# Altium footprint library Connector-USB.PcbLib: 11 footprints
Each footprint in its own frame and in the unit in brackets; x right, y up, seen from the top. Pads: shape width x height; smd on the part's side, far side on the other; paste and mask are expansions set on the pad; w line width, h text height; cw(c..) or ccw(c..) is an arc to the next point about the centre after c.
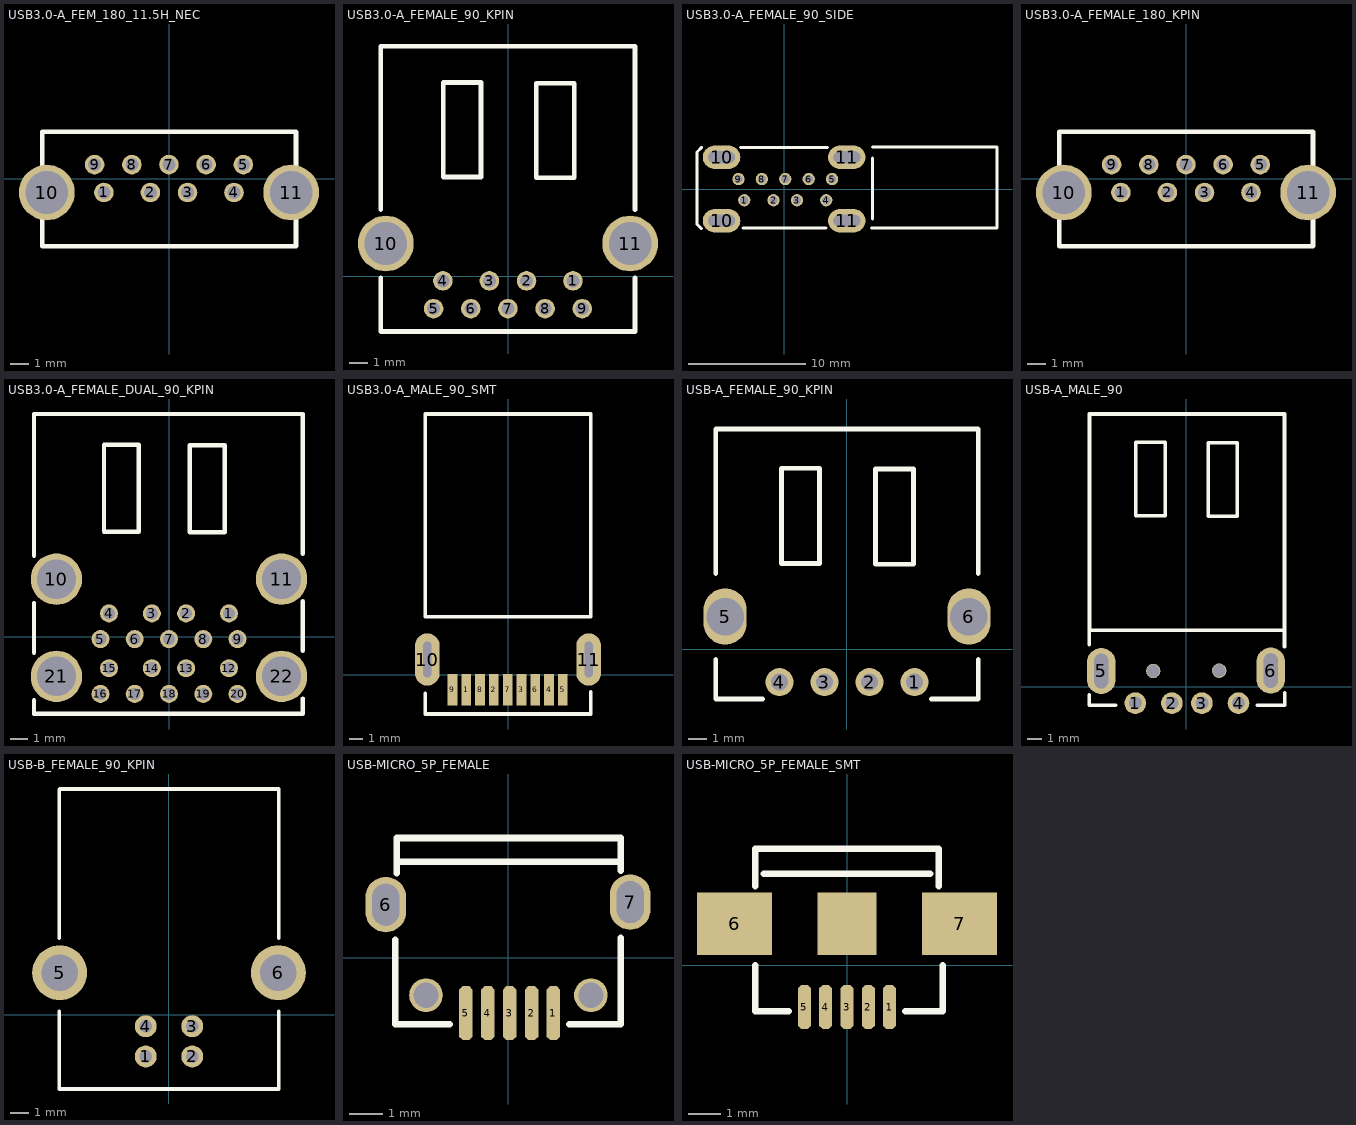
[diagram p0: the footprints below, top view; thin cyan lines are the x and y axes]

## USB3.0-A_FEM_180_11.5H_NEC [mm]
pads (11):
  round 1.05 hole 0.7: 1(-3.502,-0.749) 2(-1.002,-0.749) 3(0.998,-0.749) 4(3.498,-0.749) 5(3.998,0.751) 6(1.998,0.751) 7(-0.002,0.751) 8(-2.002,0.751) 9(-4.002,0.751)
  round 3 hole 2.3: 10(-6.572,-0.751) 11(6.572,-0.751)
Top Overlay:
  lines w0.254: -6.826,-3.634 -6.826,2.513 6.839,2.513 6.839,-3.634 -6.826,-3.634
3D body "kusb0001.stp": height 11, standoff -3.8, extent -7.8,-3.451 7.8,2.269

## USB3.0-A_FEMALE_90_KPIN [mm]
pads (11):
  round 1.05 hole 0.7: 1(3.496,-0.254) 2(0.996,-0.254) 3(-1.004,-0.254) 4(-3.504,-0.254) 5(-4.004,-1.754) 6(-2.004,-1.754) 7(-0.004,-1.754) 8(1.996,-1.754) 9(3.996,-1.754)
  round 3 hole 2.3: 10(-6.572,1.754) 11(6.572,1.754)
Top Overlay:
  lines w0.254: -6.845,-0.094 -6.845,-2.983 6.82,-2.983 ; -6.845,3.589 -6.845,12.371 6.82,12.371 ; 6.833,-2.996 6.833,-0.107 ; 6.833,3.576 6.833,12.358 ; -3.489,5.334 -2.981,5.334 -1.457,5.334 -1.457,10.414 -3.489,10.414 -3.489,5.334 ; 1.526,5.299 2.034,5.299 3.558,5.299 3.558,10.379 1.526,10.379 1.526,5.299
3D body "85r4853_1932258-1.stp": height 7.74, standoff -3.71, extent -8.082,-2.933 8.018,13.547

## USB3.0-A_FEMALE_90_SIDE [mm]
pads (13):
  round 1.05 hole 0.7: 1(-3.41,-0.959) 2(-0.91,-0.959) 3(1.09,-0.959) 4(3.59,-0.959) 5(4.093,0.847) 6(2.093,0.847) 7(0.093,0.847) 8(-1.907,0.847) 9(-3.907,0.847)
  oval 3.2x2 hole 1 slot 2.3 at 0 deg: 10(-5.353,-2.711) 10(-5.353,2.711) 11(5.353,-2.711) 11(5.353,2.711)
Top Overlay:
  lines w0.254: -7.074,-3.391 -7.449,-3.016 -7.449,-2.851 -7.449,2.711 -7.449,3.156 -7.042,3.562 ; -3.715,3.55 3.702,3.55 ; -3.512,-3.334 3.588,-3.334 ; 7.474,-3.321 18.18,-3.321 18.18,3.588 7.525,3.588 ; 7.537,-2.572 7.537,2.661
3D body "usb3_a-usb3_a-e.stp": height 2.99, standoff -15.22, extent -7.116,-3.694 18.584,3.626

## USB3.0-A_FEMALE_180_KPIN [mm]
pads (11):
  round 1.05 hole 0.7: 1(-3.502,-0.749) 2(-1.002,-0.749) 3(0.998,-0.749) 4(3.498,-0.749) 5(3.998,0.751) 6(1.998,0.751) 7(-0.002,0.751) 8(-2.002,0.751) 9(-4.002,0.751)
  round 3 hole 2.3: 10(-6.572,-0.751) 11(6.572,-0.751)
Top Overlay:
  lines w0.254: -6.826,-3.634 -6.826,2.513 6.839,2.513 6.839,-3.634 -6.826,-3.634
3D body "692121430000.stp": height 15, standoff -3.77, extent -7.806,-4.038 7.794,2.912

## USB3.0-A_FEMALE_DUAL_90_KPIN [mm]
pads (22):
  round 1.05 hole 0.7: 1(3.5,1.35) 2(1,1.35) 3(-1,1.35) 4(-3.5,1.35) 5(-4,-0.15) 6(-2,-0.15) 7(0,-0.15) 8(2,-0.15) 9(4,-0.15) 12(3.5,-1.85) 13(1,-1.85) 14(-1,-1.85) 15(-3.5,-1.85) 16(-4,-3.35) 17(-2,-3.35) 18(0,-3.35) 19(2,-3.35) 20(4,-3.35)
  round 3 hole 2.3: 10(-6.57,3.35) 11(6.57,3.35) 21(-6.57,-2.33) 22(6.57,-2.33)
Top Overlay:
  lines w0.254: -7.883,-4.524 -7.883,-3.724 ; -7.883,-4.51 7.815,-4.51 ; -7.883,-0.943 -7.883,1.953 ; -7.883,4.722 -7.883,12.926 ; -7.883,12.99 7.815,12.99 7.815,4.823 ; 7.815,-4.422 7.815,-3.622 ; 7.815,-0.841 7.815,2.055 ; -3.796,6.117 -3.796,11.197 -1.764,11.197 -1.764,6.117 -3.288,6.117 -3.796,6.117 ; 1.219,6.082 1.219,11.162 3.251,11.162 3.251,6.082 1.727,6.082 1.219,6.082
3D body "usb_3_a-usb3_a-2p.stp": height 16.12, standoff -3.5, extent -7.806,-4.468 7.784,15.232

## USB3.0-A_MALE_90_SMT [mm]
pads (11):
  rect 0.7x2.3 smd: 1(-3.025,-1.1) 2(-1.025,-1.1) 3(0.975,-1.1) 4(2.975,-1.1) 5(3.975,-1.1) 6(1.975,-1.1) 7(-0.025,-1.1) 8(-2.025,-1.1) 9(-4.025,-1.1)
  oval 1.8x3.8 hole 0.6 slot 2.6 at 90 deg: 10(-5.85,1.1) 11(5.85,1.1)
Top Overlay:
  lines w0.254: -6,-1.36 -6,-2.85 6,-2.85 6,-1.247 ; -6,4.206 -5.994,4.2 6,4.2 6,18.9 -6,18.9 -6,4.206
3D body "692112030100.stp": height 1.78, standoff -2.72, extent -5.952,-1.964 6.048,18.786

## USB-A_FEMALE_90_KPIN [mm]
pads (6):
  round 1.5 hole 0.9: 1(3.6,-1.75) 2(1.2,-1.75) 3(-1.2,-1.75) 4(-3.6,-1.75)
  oval 2.3x3 hole 2: 5(-6.5,1.75) 6(6.5,1.75)
Top Overlay:
  lines w0.254: -7,-0.55 -7,-2.65 -4.5,-2.65 ; -7,4.05 -7,11.75 7,11.75 7,4.05 ; 4.5,-2.65 7,-2.65 7,-0.55 ; -3.495,4.573 -2.987,4.573 -1.463,4.573 -1.463,9.653 -3.495,9.653 -3.495,4.573 ; 1.52,4.538 2.028,4.538 3.552,4.538 3.552,9.618 1.52,9.618 1.52,4.538
3D body "usb.STEP": height 7.95, standoff -3.19, extent -8.337,-3.63 8.438,11.636

## USB-A_MALE_90 [mm]
pads (8):
  round 1.5 hole 0.9: 1(-3.518,-1.13) 2(-0.978,-1.13) 3(1.105,-1.13) 4(3.645,-1.13)
  oval 2x3.2 hole 1 slot 2.4 at 90 deg: 5(-5.88,1.105) 6(5.88,1.13)
  round 1 hole 0.9: ""(-2.273,1.105) ""(2.299,1.13)
Top Overlay:
  lines w0.254: -6.718,-0.546 -6.718,-1.281 -4.889,-1.281 ; -6.718,2.934 -6.718,3.924 6.835,3.924 ; -6.693,3.924 -6.693,18.936 6.835,18.936 6.835,3.924 ; 4.966,-1.281 6.845,-1.281 6.845,-0.419 ; 6.835,2.807 6.835,3.924 ; -3.483,11.886 -3.483,16.966 -1.451,16.966 -1.451,11.886 -2.975,11.886 -3.483,11.886 ; 1.533,11.851 1.533,16.931 3.565,16.931 3.565,11.851 2.041,11.851 1.533,11.851
3D body "usb_a-usb_a-lp-c.stp": height 4.5, standoff -1.3, extent -6.265,-1.156 6.341,18.769

## USB-B_FEMALE_90_KPIN [mm]
pads (6):
  round 1.2 hole 0.7: 1(-1.27,-2.286) 3(1.27,-0.635) 4(-1.27,-0.635)
  round 1.2 hole 0.7 paste+0: 2(1.27,-2.286)
  round 3 hole 2: 5(-5.969,2.286) 6(5.969,2.286)
Top Overlay:
  lines w0.203: -6,0.186 -6,-4.064 6,-4.064 6,0.186 ; -6,4.186 -6,12.288 ; -5.969,12.319 6,12.319 6,4.186
3D body "USB座-B型": height 11, standoff -4.42, extent -7.432,-4.335 7.453,12.665

## USB-MICRO_5P_FEMALE [mm] "MICRO USB接口，2个直插焊盘固定，后侧牛角形2个固定柱"
height 8
pads (9):
  oct 0.4x1.6 smd: 1(1.351,-1.651) 2(0.701,-1.651) 3(0.051,-1.651) 4(-0.599,-1.651) 5(-1.249,-1.651)
  oval 1.2x1.65 hole 0.8 slot 1.25 at 90 deg: 6(-3.632,1.575) 7(3.632,1.651)
  round 1 hole 0.75: ""(-2.438,-1.118) ""(2.464,-1.118)
Top Overlay:
  lines w0.2: -3.353,0.533 -3.353,-1.981 -1.727,-1.981 ; -3.302,2.515 -3.302,3.556 3.353,3.556 3.353,2.591 ; -3.277,2.845 3.277,2.845 ; 1.829,-1.981 3.353,-1.981 3.353,0.584
3D body "User Library-10118194.step": height 2.73, standoff -0.55, extent -4,-1.321 4.05,4.259

## USB-MICRO_5P_FEMALE_SMT [mm] "MICRO USB接口，2个SMT焊盘固定，后侧无固定柱"
height 8
pads (8):
  oct 0.4x1.35 smd: 1(1.3,-1.27) 2(0.65,-1.27) 3(0,-1.27) 4(-0.65,-1.27) 5(-1.3,-1.27)
  rect 2.286x1.9 smd: 6(-3.429,1.27) 7(3.429,1.27)
  rect 1.8x1.9 smd: ""(0,1.27)
Top Overlay:
  lines w0.2: -2.794,0 -2.794,-1.397 -1.778,-1.397 ; -2.794,2.413 -2.794,3.556 2.794,3.556 2.794,2.413 ; -2.54,2.794 2.54,2.794 ; 1.778,-1.397 2.921,-1.397 2.921,0
3D body "User Library-10104111.step": height 2.79, standoff -0.28, extent -4.451,-1.534 4.349,4.091